# Altium integrated library SparkFun-IC-Conversion.IntLib: 9 symbols
Pins are listed as number, name and electrical type; pins without a type are passive.

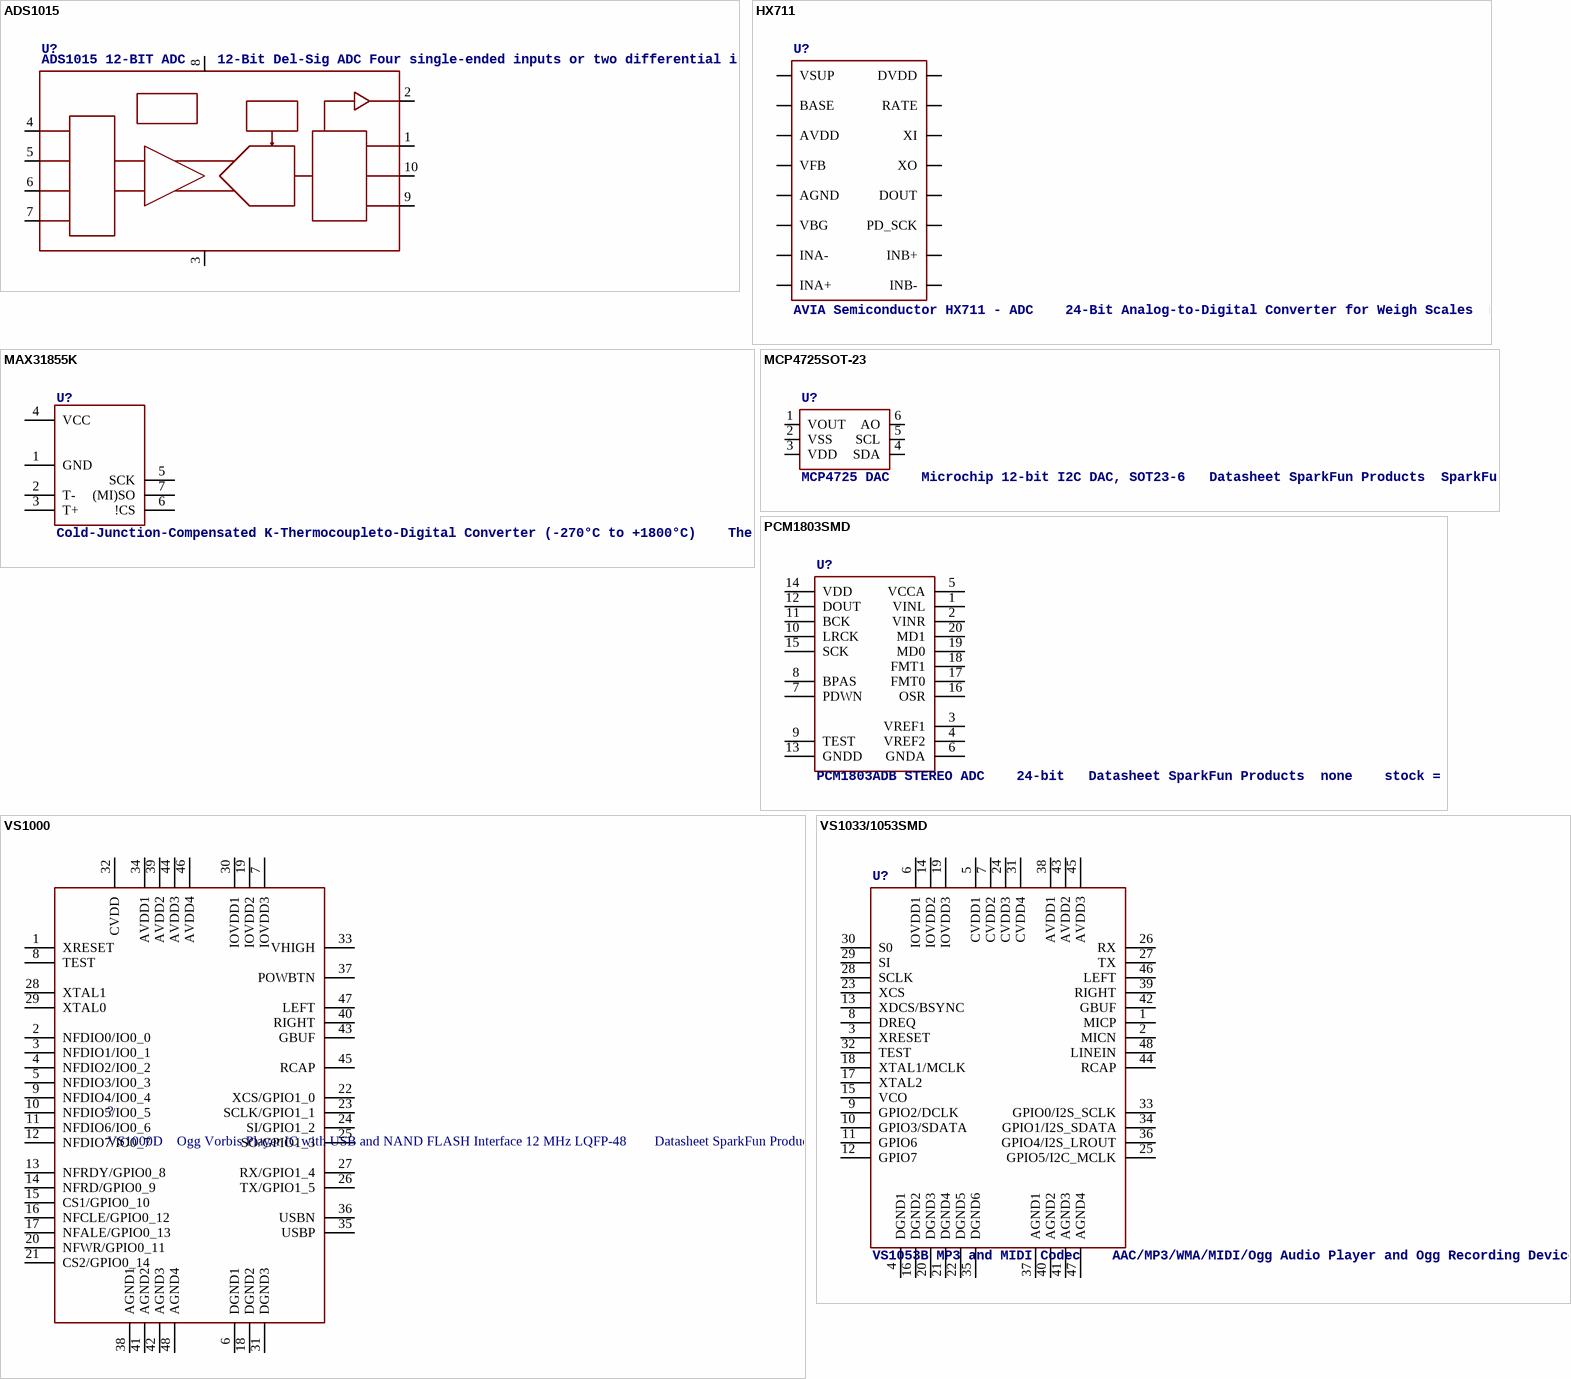
[diagram p0: symbols ADS1015 to VS1033/1053SMD]

## ADS1015
designator U?, comment ADS1015 12-BIT ADC    12-Bit Del-Sig ADC Four single-ended inputs or two differential inputs Internal PGA I2C interface 2.0-5.5V  SparkFun Products  SparkFun Block for Intel Edison - ADC (DEV-13770)
PROD_ID: IC-12270
footprint MSOP10
pins: 1 ADDR, 2 ALERT/RDY, 3 VSS, 4 AIN0, 5 AIN1, 6 AIN2, 7 AIN3, 8 VDD, 9 SDA, 10 SCL

## HX711
designator U?, comment AVIA Semiconductor HX711 - ADC    24-Bit Analog-to-Digital Converter for Weigh Scales  Datasheet    SparkFun Products: SparkFun Load Cell Amplifier - HX711
PROD_ID: IC-12445
footprint SO16
pins: 1 VSUP, 2 BASE, 3 AVDD, 4 VFB, 5 AGND, 6 VBG, 7 INA-, 8 INA+, 9 INB-, 10 INB+, 11 PD_SCK, 12 DOUT, 13 XO, 14 XI, 15 RATE, 16 DVDD

## MAX31855K
designator U?, comment Cold-Junction-Compensated K-Thermocoupleto-Digital Converter (-270°C to +1800°C)    The MAX31855K performs cold-junction compensation and digitizes the signal from a type-K thermocouple. The data is output in a 14-bit resolution, SPI™-compatible, read-only format. This converter resolves temperatures to 0.25°C, allows readings as high as +1800°C and as low as -270°C, and exhibits thermocouple accuracy of ±2°C for temperatures ranging from -200°C to +700°C for K-type thermocouples.   Datasheet SparkFun Products  SparkFun Thermocouple Breakout - MAX31855K (SEN-13266)
PROD_ID: IC-12578
footprint SO08
pins: 1 GND, 2 T-, 3 T+, 4 VCC, 5 SCK, 6 !CS, 7 (MI)SO

## MCP4725SOT-23
designator U?, comment MCP4725 DAC    Microchip 12-bit I2C DAC, SOT23-6   Datasheet SparkFun Products  SparkFun I2C DAC Breakout - MCP4725 (BOB-12918)
PROD_ID: IC-08886
footprint SOT23-6
pins: 1 VOUT, 2 VSS, 3 VDD, 4 SDA, 5 SCL, 6 AO

## PCM1803SMD
designator U?, comment PCM1803ADB STEREO ADC    24-bit   Datasheet SparkFun Products  none    stock = 62
PROD_ID: IC-09251
footprint SSOP20
pins: 1 VINL, 2 VINR, 3 VREF1, 4 VREF2, 5 VCCA, 6 GNDA, 7 PDWN, 8 BPAS, 9 TEST, 10 LRCK, 11 BCK, 12 DOUT, 13 GNDD, 14 VDD, 15 SCK, 16 OSR, 17 FMT0, 18 FMT1, 19 MD0, 20 MD1

## VS1000
designator ?, comment VS1000D    Ogg Vorbis Player IC with USB and NAND FLASH Interface 12 MHz LQFP-48        Datasheet SparkFun Products  Storefront component: Ogg Vorbis Codec IC - VS1000D (COM-08300)
PROD_ID: LPA-12743
footprint LQFP-48
pins: 1 XRESET, 2 NFDIO0/IO0_0, 3 NFDIO1/IO0_1, 4 NFDIO2/IO0_2, 5 NFDIO3/IO0_3, 6 DGND1, 7 IOVDD3, 8 TEST, 9 NFDIO4/IO0_4, 10 NFDIO5/IO0_5, 11 NFDIO6/IO0_6, 12 NFDIO7/IO0_7, 13 NFRDY/GPIO0_8, 14 NFRD/GPIO0_9, 15 CS1/GPIO0_10, 16 NFCLE/GPIO0_12, 17 NFALE/GPIO0_13, 18 DGND2, 19 IOVDD2, 20 NFWR/GPIO0_11, 21 CS2/GPIO0_14, 22 XCS/GPIO1_0, 23 SCLK/GPIO1_1, 24 SI/GPIO1_2, 25 SO/GPIO1_3, 26 TX/GPIO1_5, 27 RX/GPIO1_4, 28 XTAL1, 29 XTAL0, 30 IOVDD1, 31 DGND3, 32 CVDD, 33 VHIGH, 34 AVDD1, 35 USBP, 36 USBN, 37 POWBTN, 38 AGND1, 39 AVDD2, 40 RIGHT, 41 AGND2, 42 AGND3, 43 GBUF, 44 AVDD3, 45 RCAP, 46 AVDD4, 47 LEFT, 48 AGND4

## VS1033/1053SMD
designator U?, comment VS1053B MP3 and MIDI Codec    AAC/MP3/WMA/MIDI/Ogg Audio Player and Ogg Recording Device LQFP-48 7x7x1.4 mm   Datasheet SparkFun Products  Storefront component: MP3 and MIDI Codec - VS1053B (COM-08892)  SparkFun MP3 Player Shield (DEV-12660)  LilyPad MP3 (DEV-11013)  SparkFun Music Instrument Shield (DEV-10587)
PROD_ID: IC-12665
footprint LQFP-48
pins: 1 MICP, 2 MICN, 3 XRESET, 4 DGND1, 5 CVDD1, 6 IOVDD1, 7 CVDD2, 8 DREQ, 9 GPIO2/DCLK, 10 GPIO3/SDATA, 11 GPIO6, 12 GPIO7, 13 XDCS/BSYNC, 14 IOVDD2, 15 VCO, 16 DGND2, 17 XTAL2, 18 XTAL1/MCLK, 19 IOVDD3, 20 DGND3, 21 DGND4, 22 DGND5, 23 XCS, 24 CVDD3, 25 GPIO5/I2C_MCLK, 26 RX, 27 TX, 28 SCLK, 29 SI, 30 S0, 31 CVDD4, 32 TEST, 33 GPIO0/I2S_SCLK, 34 GPIO1/I2S_SDATA, 35 DGND6, 36 GPIO4/I2S_LROUT, 37 AGND1, 38 AVDD1, 39 RIGHT, 40 AGND2, 41 AGND3, 42 GBUF, 43 AVDD2, 44 RCAP, 45 AVDD3, 46 LEFT, 47 AGND4, 48 LINEIN

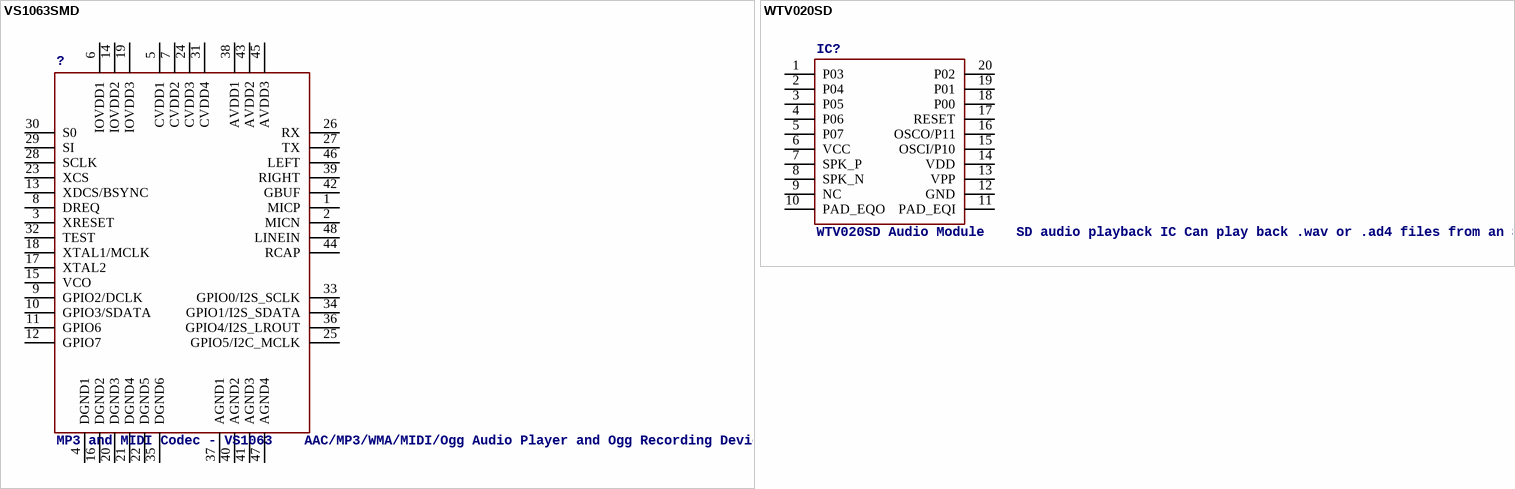
[diagram p1: symbols VS1063SMD to WTV020SD]

## VS1063SMD
designator ?, comment MP3 and MIDI Codec - VS1063    AAC/MP3/WMA/MIDI/Ogg Audio Player and Ogg Recording Device LQFP-48 7x7x1.4 mm   Datasheet SparkFun Products  Storefront component:  MP3 and MIDI Codec - VS1063 (COM-11025)
PROD_ID: IC-10870
footprint LQFP-48
pins: 1 MICP, 2 MICN, 3 XRESET, 4 DGND1, 5 CVDD1, 6 IOVDD1, 7 CVDD2, 8 DREQ, 9 GPIO2/DCLK, 10 GPIO3/SDATA, 11 GPIO6, 12 GPIO7, 13 XDCS/BSYNC, 14 IOVDD2, 15 VCO, 16 DGND2, 17 XTAL2, 18 XTAL1/MCLK, 19 IOVDD3, 20 DGND3, 21 DGND4, 22 DGND5, 23 XCS, 24 CVDD3, 25 GPIO5/I2C_MCLK, 26 RX, 27 TX, 28 SCLK, 29 SI, 30 S0, 31 CVDD4, 32 TEST, 33 GPIO0/I2S_SCLK, 34 GPIO1/I2S_SDATA, 35 DGND6, 36 GPIO4/I2S_LROUT, 37 AGND1, 38 AVDD1, 39 RIGHT, 40 AGND2, 41 AGND3, 42 GBUF, 43 AVDD2, 44 RCAP, 45 AVDD3, 46 LEFT, 47 AGND4, 48 LINEIN

## WTV020SD
designator IC?, comment WTV020SD Audio Module    SD audio playback IC Can play back .wav or .ad4 files from an SD card SPI control or digital input trigger control available in SSOP-20 or DIP-20   Datasheet SparkFun Products  SparkFun Audio-Sound Breakout - WTV020SD (WIG-11125)
PROD_ID: IC-11012
footprint SSOP_20
pins: 1 P03, 2 P04, 3 P05, 4 P06, 5 P07, 6 VCC, 7 SPK_P, 8 SPK_N, 9 NC, 10 PAD_EQO, 11 PAD_EQI, 12 GND, 13 VPP, 14 VDD, 15 OSCI/P10, 16 OSCO/P11, 17 RESET, 18 P00, 19 P01, 20 P02